# EAGLE library part 74HCT2G00 (library SHC)
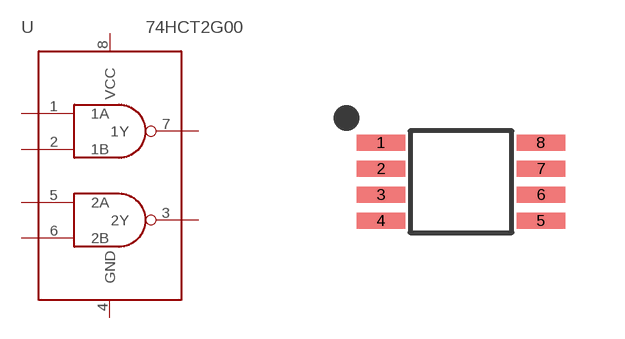
[diagram p2: symbol with the pads of SOT505; footprint SOT505]

Designator prefix -

## 74HCT2G00  [SOT505]
1  1A
2  1B
3  2Y
4  GND
5  2A
6  2B
7  1Y
8  VCC

## Footprint SOT505 (pad centres in mm)
smd 1.2 x 0.406: 1 -2,0.975; 2 -2,0.325; 3 -2,-0.325; 4 -2,-0.975; 5 2,-0.975; 6 2,-0.325; 7 2,0.325; 8 2,0.975